# Altium schematic symbol library SMAJ15CA.SchLib: 1 symbol
Pins are listed as number, name and electrical type; pins without a type are passive.

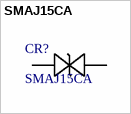
[diagram p0: symbol SMAJ15CA]

## SMAJ15CA
designator CR?
No Description Available; Manufacturer_Name: Littelfuse Inc; Copyright: Copyright (C) 2026 Ultra Librarian. All rights reserved.; Manufacturer_Part_Number: SMAJ15CA; Digi-Key_Part_Number_1: SMAJ15CALFCT-ND; Digi-Key_Part_Number_2: SMAJ15CALFDKR-ND; Digi-Key_Part_Number_3: SMAJ15CALFTR-ND; Digi-Key_Part_Number_4: 2516-SMAJ15CATR-ND; Digi-Key_Part_Number_5: 2997-SMAJ15CATR-ND; Digi-Key_Part_Number_6: SMAJ15CABCT-ND; Digi-Key_Part_Number_7: SMAJ15CABDKR-ND; Digi-Key_Part_Number_8: SMAJ15CABTR-ND
footprint SMASeries_LTF
pins: 1, 2